# EAGLE library part JOYSTICK_SF303GJ26-3 (library dp_devices)
Multi way switch Mfr no: SF303GJ26-3 SF303GJ26-3 <https://www.sparkfun.com/products/10063?>
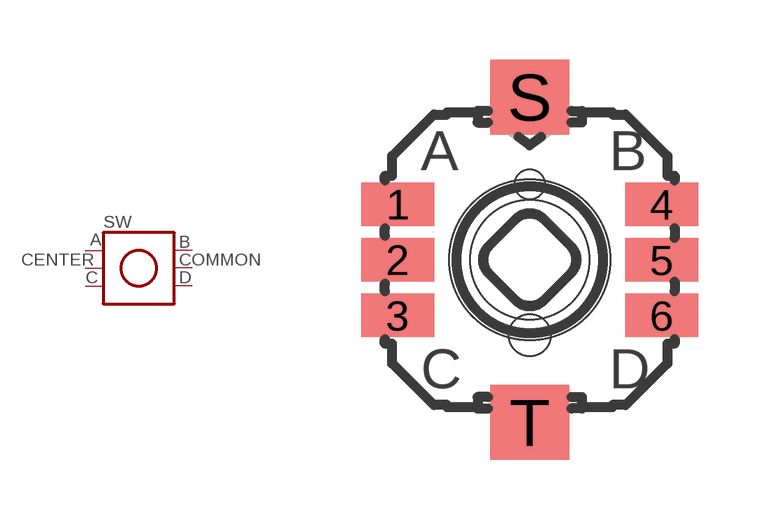
[diagram p118: symbol with the pads of JOYSTICK_SF303GJ26-3; footprint JOYSTICK_SF303GJ26-3]

Designator prefix SW

## JOYSTICK_SF303GJ26-3  [JOYSTICK_SF303GJ26-3]
1  A
2  CENTER
3  C
4  B
5  COMMON
6  D

## Footprint JOYSTICK_SF303GJ26-3 (pad centres in mm)
smd 1.85 x 1.1: 1 -3.325,1.4; 2 -3.325,0; 3 -3.325,-1.4; 4 3.325,1.4; 5 3.325,0; 6 3.325,-1.4
smd 2 x 1.9: S 0,4.1; T 0,-4.1
hole 0.75 at 0,1.9
hole 1.05 at 0,-1.9